# Altium integrated library Rosenberger BNC 75 Ohm.IntLib: 4 symbols
Pins are listed as number, name and electrical type; pins without a type are passive.

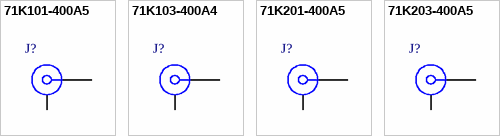
[diagram p0: symbols 71K101-400A5 to 71K203-400A5]

## 71K101-400A5
designator J?
75R BNC Straight Jack, Up to 4 GHz, -65 to 165 degC; PartNumber: 71K101-400A5; Design Note: Footprint in library is a generic example - only application specific footprint delivers High Performance; DatasheetVersion: a00; PackageVersion: a00; PackageReference: 71K101-400A5; PackageDescription: 75R BNC, Straight Jack, 12 x 12 x 15 mm; Mounting Technology: Through Hole; ComponentLink1Description: Manufacturer URL; ComponentLink1URL: http://www.rosenberger.de; ComponentLink2Description: Datasheet; ComponentLink2URL: http://rosenberger.de/ok/images/documents/db/71k101-400A5.pdf; ComponentLink3Description: Package Specification; ComponentLink3URL: http://rosenberger.de/ok/images/documents/db/71K101-400A5.pdf; ComponentLink4Description: Series Overview / Design Note; ComponentLink4URL: http://rosenberger.de/ok/images/documents/spez/71.pdf; ComponentLink5Description: Webshop / RFQ; ComponentLink5URL: http://www.rosenberger.com/en/contact/sales/
footprint ROS-71K101-400A5_V (75R BNC, Straight Jack, 12x12x15mm, Rosenberger Recommended)
pins: 1, MH

## 71K103-400A4
designator J?
75R BNC Straight Jack, Up to 4 GHz, -65 to 165 degC; PartNumber: 71K103-400A4; Design Note: Footprint in library is a generic example - only application specific footprint delivers High Performance; DatasheetVersion: d00; PackageVersion: d00; PackageReference: 71K103-400A4; PackageDescription: 75R BNC, Straight Jack, 12 x 12 x 22 mm; Mounting Technology: Through Hole; ComponentLink1Description: Manufacturer URL; ComponentLink1URL: http://www.rosenberger.de; ComponentLink2Description: Datasheet; ComponentLink2URL: http://rosenberger.de/ok/images/documents/db/71K103-400A4.pdf; ComponentLink3Description: Package Specification; ComponentLink3URL: http://rosenberger.de/ok/images/documents/db/71K103-400A4.pdf; ComponentLink4Description: Series Overview / Design Note; ComponentLink4URL: http://rosenberger.de/ok/images/documents/spez/71.pdf; ComponentLink5Description: Webshop / RFQ; ComponentLink5URL: http://www.rosenberger.com/en/contact/sales/
footprint ROS-71K103-400A4_V (75R BNC, Straight Jack, 12x12x22mm, Rosenberger Recommended)
pins: 1, MH

## 71K201-400A5
designator J?
75R BNC Right Angle Jack, Up to 4 GHz, -65 to 165 degC; PartNumber: 71K201-400A5; Design Note: Footprint in library is a generic example - only application specific footprint delivers High Performance; DatasheetVersion: d00; PackageVersion: d00; PackageReference: 71K201-400A5; PackageDescription: 75R BNC, Right Angle Jack, 12 x 23.1 x 14.5 mm; Mounting Technology: Through Hole; ComponentLink1Description: Manufacturer URL; ComponentLink1URL: http://www.rosenberger.de; ComponentLink2Description: Datasheet; ComponentLink2URL: http://rosenberger.de/ok/images/documents/db/71K201-400A5.pdf; ComponentLink3Description: Package Specification; ComponentLink3URL: http://rosenberger.de/ok/images/documents/db/71K201-400A5.pdf; ComponentLink4Description: Series Overview / Design Note; ComponentLink4URL: http://rosenberger.de/ok/images/documents/spez/71.pdf; ComponentLink5Description: Webshop / RFQ; ComponentLink5URL: http://www.rosenberger.com/en/contact/sales/
footprint ROS-71K201-400A5_V (75R BNC, Right Angle Jack, 12x23.1x14.5mm, Rosenberger Recommended)
pins: 1, MH

## 71K203-400A5
designator J?
75R BNC Right Angle Jack, Long Panel Feedthrough, Up to 4 GHz, -65 to 165 degC; PartNumber: 71K203-400A5; Design Note: Footprint in library is a generic example - only application specific footprint delivers High Performance; DatasheetVersion: d00; PackageVersion: d00; PackageReference: 71K203-400A5; PackageDescription: 75R BNC Right Angle Jack, 15 x 34.5 x 14.5 mm; Mounting Technology: Through Hole; ComponentLink1Description: Manufacturer URL; ComponentLink1URL: http://www.rosenberger.de; ComponentLink2Description: Datasheet; ComponentLink2URL: http://rosenberger.de/ok/images/documents/db/71K203-400A5.pdf; ComponentLink3Description: Package Specification; ComponentLink3URL: http://rosenberger.de/ok/images/documents/db/71K203-400A5.pdf; ComponentLink4Description: Series Overview / Design Note; ComponentLink4URL: http://rosenberger.de/ok/images/documents/spez/71.pdf; ComponentLink5Description: Webshop / RFQ; ComponentLink5URL: http://www.rosenberger.com/en/contact/sales/
footprint ROS-71K203-400A5_V (75R BNC, Right Angle Jack, 15x34.5x14.5mm, Rosenberger Recommended)
pins: 1, MH